# EAGLE library part AQW21 (library DMFlib)
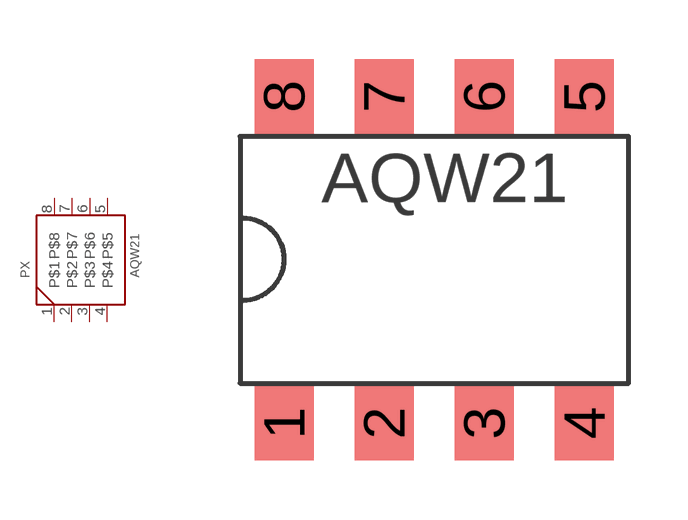
[diagram p0: symbol with the pads of AQW216EH; footprint AQW216EH]

Designator prefix PX

## AQW21  [AQW216EH]
1  P$1
2  P$2
3  P$3
4  P$4
5  P$5
6  P$6
7  P$7
8  P$8

## Footprint AQW216EH (pad centres in mm)
smd 1.5 x 1.9: 1 -8.74,-1.014; 2 -6.2,-1.014; 3 -3.66,-1.014; 4 -1.12,-1.014; 5 -1.12,7.287; 6 -3.66,7.287; 7 -6.2,7.287; 8 -8.74,7.287